# EAGLE library part MAX6921 (library iStivi - ICs)
MAX6921 76V VFD driver in TSSOP and PLCC. Can be cascaded, talk to it via SPI. Used for IV-18 tubes
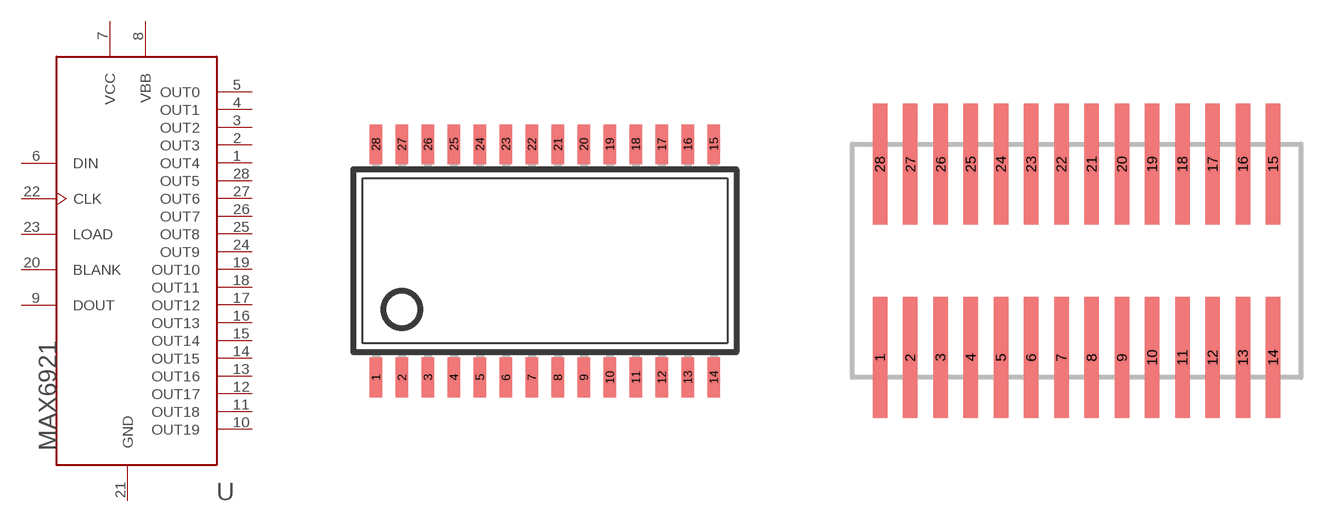
[diagram p2: symbol with the pads of TSSOP28; footprints TSSOP28, SOP28-BREAKOUT]

Designator prefix -

## MAX6921AUI+  [TSSOP28]
1  OUT4  out
2  OUT3  out
3  OUT2  out
4  OUT1  out
5  OUT0  out
6  DIN  in
7  VCC  pwr
8  VBB  sup
9  DOUT  out
10  OUT19  out
11  OUT18  out
12  OUT17  out
13  OUT16  out
14  OUT15  out
15  OUT14  out
16  OUT13  out
17  OUT12  out
18  OUT11  out
19  OUT10  out
20  BLANK  in
21  GND  sup
22  CLK  in
23  LOAD  in
24  OUT9  out
25  OUT8  out
26  OUT7  out
27  OUT6  out
28  OUT5  out

## MAX6921TEST  [SOP28-BREAKOUT]
Pads as for TSSOP28

## MAX6921NOTUSED  [SSOP28-BREAKOUT]
Pads as for TSSOP28

## Footprint TSSOP28 (pad centres in mm)
Thin Shrink Small Outline Plastic 28 MAX3223-MAX3243.pdf
smd 0.305 x 0.991: 1 -4.225,-2.918; 2 -3.575,-2.918; 3 -2.925,-2.918; 4 -2.275,-2.918; 5 -1.625,-2.918; 6 -0.975,-2.918; 7 -0.325,-2.918; 8 0.325,-2.918; 9 0.975,-2.918; 10 1.625,-2.918; 11 2.275,-2.918; 12 2.925,-2.918; 13 3.575,-2.918; 14 4.225,-2.918; 15 4.225,2.918; 16 3.575,2.918; 17 2.925,2.918; 18 2.275,2.918; 19 1.625,2.918; 20 0.975,2.918; 21 0.325,2.918; 22 -0.325,2.918; 23 -0.975,2.918; 24 -1.625,2.918; 25 -2.275,2.918; 26 -2.925,2.918; 27 -3.575,2.918; 28 -4.225,2.918

## Footprint SOP28-BREAKOUT (pad centres in mm)
SMALL OUTLINE PACKAGE
smd 0.61 x 5.08: 1 -8.255,-4.064; 2 -6.985,-4.064; 3 -5.715,-4.064; 4 -4.445,-4.064; 5 -3.175,-4.064; 6 -1.905,-4.064; 7 -0.635,-4.064; 8 0.635,-4.064; 9 1.905,-4.064; 10 3.175,-4.064; 11 4.445,-4.064; 12 5.715,-4.064; 13 6.985,-4.064; 14 8.255,-4.064; 15 8.255,4.064; 16 6.985,4.064; 17 5.715,4.064; 18 4.445,4.064; 19 3.175,4.064; 20 1.905,4.064; 21 0.635,4.064; 22 -0.635,4.064; 23 -1.905,4.064; 24 -3.175,4.064; 25 -4.445,4.064; 28 -8.255,4.064
smd 0.6 x 5.08: 26 -5.715,4.064; 27 -6.985,4.064

## Footprint SSOP28-BREAKOUT (pad centres in mm)
Shrink Small Outline Package package type SS
smd 0.406 x 3.175: 1 -4.225,-3.048; 2 -3.575,-3.048; 3 -2.925,-3.048; 4 -2.275,-3.048; 5 -1.625,-3.048; 6 -0.975,-3.048; 7 -0.325,-3.048; 8 0.325,-3.048; 9 0.975,-3.048; 10 1.625,-3.048; 11 2.275,-3.048; 12 2.925,-3.048; 13 3.575,-3.048; 14 4.225,-3.048; 15 4.225,3.048; 16 3.575,3.048; 17 2.925,3.048; 18 2.275,3.048; 19 1.625,3.048; 20 0.975,3.048; 21 0.325,3.048; 22 -0.325,3.048; 23 -0.975,3.048; 24 -1.625,3.048; 25 -2.275,3.048; 26 -2.925,3.048; 27 -3.575,3.048; 28 -4.225,3.048